# Altium schematic symbol library Schlib1.SchLib: 2 symbols
Pins are listed as number, name and electrical type; pins without a type are passive.

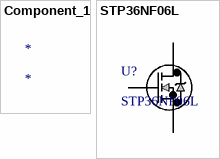
[diagram p0: symbols Component_1 to STP36NF06L]

## Component_1
designator *

## STP36NF06L
designator U?
No Description Available; Mfr_Name: STMicroelectronics; Copyright: Copyright (C) 2022 Ultra Librarian. All rights reserved.; Manufacturer_Part_Number: STP36NF06L; Digi-Key_Part_Number_1: 497-7522-5-ND; RefDes: RefDes; Type: DEV
footprint TO-220_STM
pins: 1, 2, 3